# Altium footprint library bitbots.PcbLib: 27 footprints (part 1 of 2)
Each footprint in its own frame and in the unit in brackets; x right, y up, seen from the top. Pads: shape width x height; smd on the part's side, far side on the other; paste and mask are expansions set on the pad; w line width, h text height; cw(c..) or ccw(c..) is an arc to the next point about the centre after c.
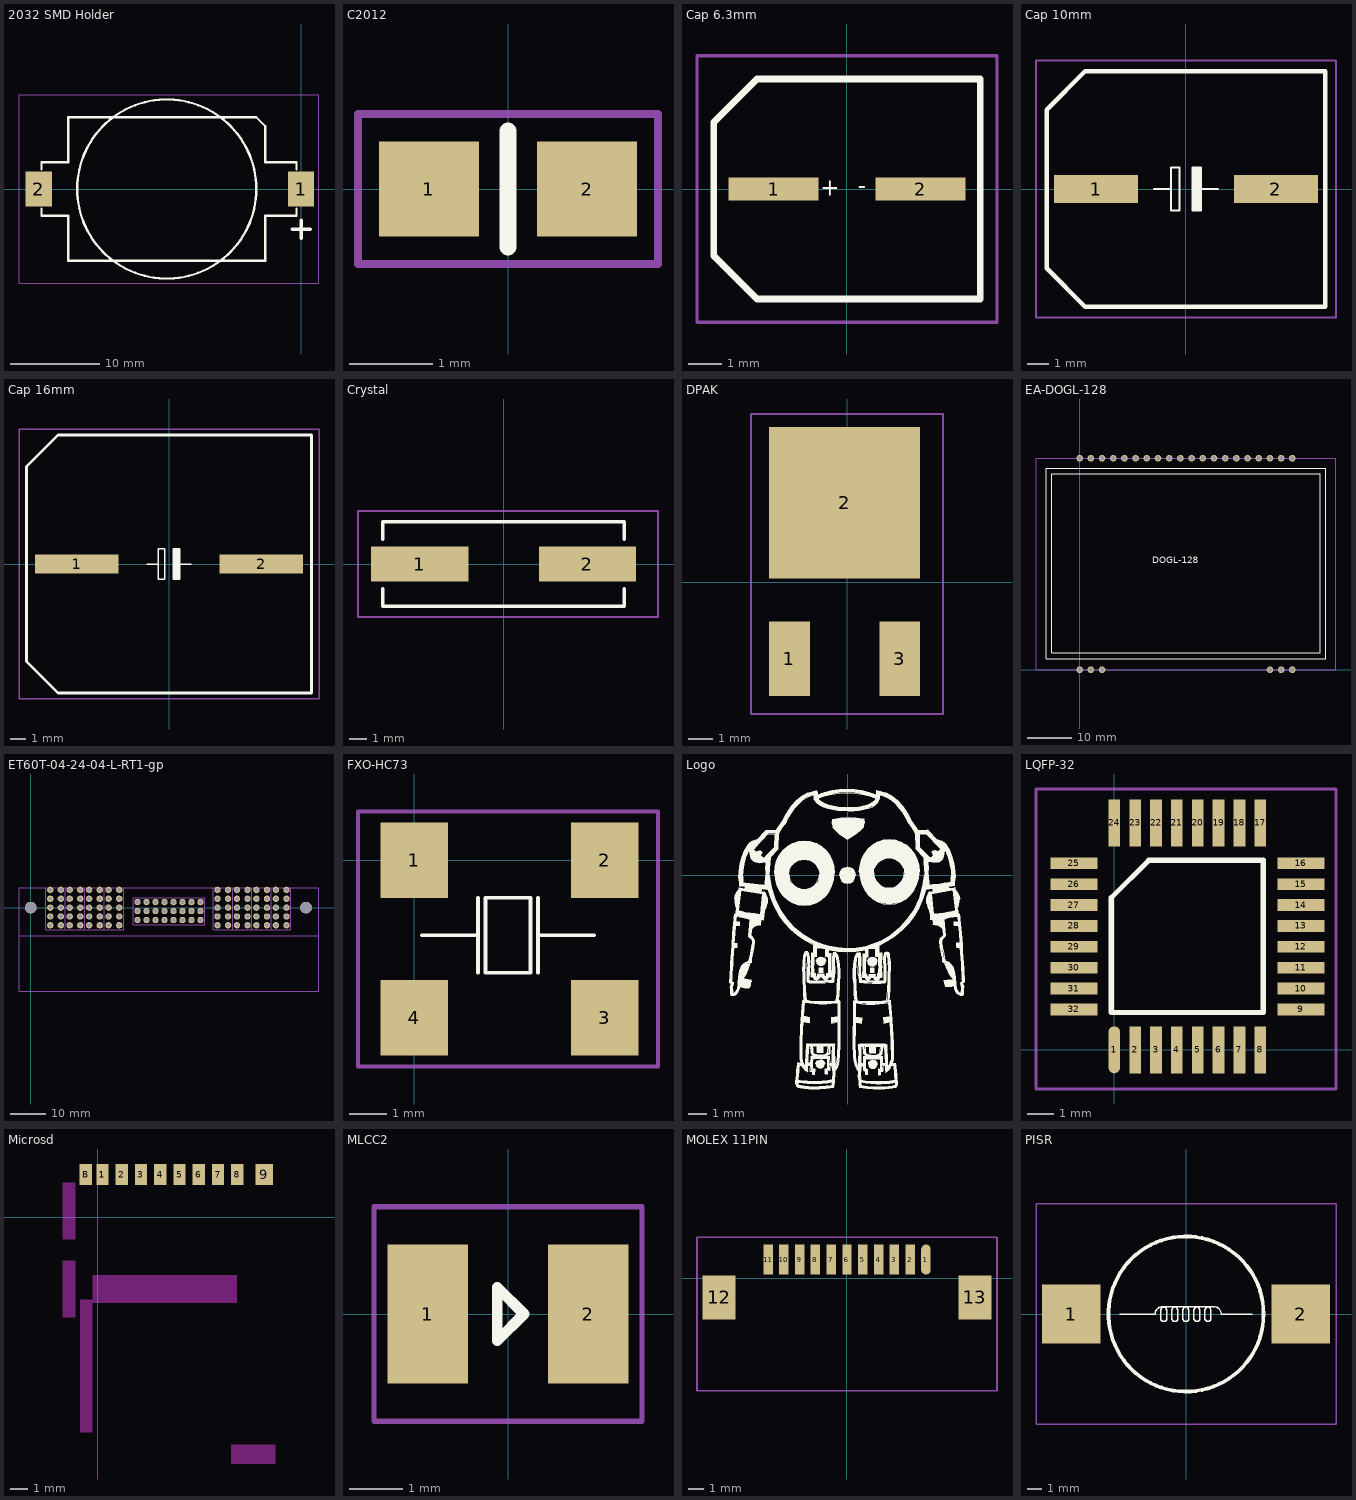
[diagram p0: the footprints below, top view; thin cyan lines are the x and y axes]

## 2032 SMD Holder [mil]
height 68.9
pads (2):
  rect 115x155 smd: 1(0,0) 2(-1153.54,0)
Top Overlay:
  circle w10: c-590.55,0 r393.7
  lines w10: -1141.73,-86.61 -1141.73,-118.11 -1023.62,-118.11 -1023.62,-314.96 -157.48,-314.96 -157.48,-118.11 -19.68,-118.11 -19.68,-86.61 ; -1141.73,86.61 -1141.73,118.11 -1023.62,118.11 -1023.62,314.96 -196.85,314.96 -157.48,275.59 -157.48,118.11 -19.68,118.11 -19.68,86.61
  lines w15.75: -39.37,-177.17 39.37,-177.17 ; 0,-216.54 0,-137.8
Mechanical 15:
  lines w3.94: -1240.16,-413.39 78.74,-413.39 78.74,413.39 -1240.16,413.39 -1240.16,-413.39
3D body: height 209.14, standoff 0.48, extent -1208.66,-389.77 51.18,397.64

## C2012 [mm]
pads (2):
  rect 1.2x1.14 smd: 1(-0.95,0) 2(0.95,0)
Top Overlay:
  lines w0.2: 0,-0.7 0,0.7
Mechanical 15:
  lines w0.1: -1.8,-0.9 1.8,-0.9 1.8,0.9 -1.8,0.9 -1.8,-0.9
3D body: height 0.78, standoff 0, extent -1,-0.625 1,0.625

## Cap 6.3mm [mm]
pads (2):
  rect 2.7x0.7 smd: 1(-2.2,0) 2(2.2,0)
Top Overlay:
  lines w0.2: -4,-2 -4,2 -2.7,3.3 4,3.3 4,-3.3 -2.7,-3.3 -4,-2
  text "-" at 0.575,0.25 h0.5
  text "+" at -0.225,0.25 h0.5
Mechanical 15:
  lines w0.1: -4.5,-4 -4.5,4 4.5,4 4.5,-4 -4.5,-4

## Cap 10mm [mm]
pads (2):
  rect 3.9x1.3 smd: 1(-4.2,0) 2(4.2,0)
Top Overlay:
  region: 0.7,1 0.3,1 0.3,-1 0.7,-1
  lines w0.1: -1.5,0 -0.7,0 ; 0.7,0 1.5,0 ; -0.7,-1 -0.3,-1 -0.3,1 -0.7,1 -0.7,-1 ; 0.3,-1 0.7,-1 0.7,1 0.3,1 0.3,-1
  lines w0.2: -6.5,-3.7 -6.5,3.7 -4.7,5.5 6.5,5.5 6.5,-5.5 -4.7,-5.5 -6.5,-3.7
Mechanical 15:
  lines w0.1: -7,-6 7,-6 7,6 -7,6 -7,-6
3D body: height 10.5, standoff 0, extent -5.901,-5.25 5.899,5.25

## Cap 16mm [mm]
pads (2):
  rect 5.6x1.3 smd: 1(-6.15,0) 2(6.15,0)
Top Overlay:
  region: 0.7,1 0.3,1 0.3,-1 0.7,-1
  lines w0.1: -1.5,0 -0.7,0 ; 0.7,0 1.5,0 ; -0.7,-1 -0.3,-1 -0.3,1 -0.7,1 -0.7,-1 ; 0.3,-1 0.7,-1 0.7,1 0.3,1 0.3,-1
  lines w0.2: -9.5,-6.5 -9.5,6.5 -7.4,8.6 9.5,8.6 9.5,-8.6 -7.4,-8.6 -9.5,-6.5
Mechanical 15:
  lines w0.1: -10,-9 10,-9 10,9 -10,9 -10,-9

## Crystal [mm]
height 4.6
pads (2):
  rect 5.5x2 smd: 1(-4.75,0) 2(4.75,0)
Top Overlay:
  lines w0.2: -6.85,-1.4 -6.85,-2.4 -5.675,-2.4 6.85,-2.4 6.85,-1.4 ; -6.85,1.4 -6.85,2.4 6.85,2.4 6.85,1.4
Mechanical 15:
  lines w0.1: -8.25,-3 -8.25,3 8.75,3 8.75,-3 -8.25,-3
3D body: height 4.5, standoff -0.01, extent -6.95,-2.5 6.95,2.5

## DPAK [mm]
pads (3):
  rect 1.7x3.1 smd: 1(-2.4,-3.2) 3(2.2,-3.2)
  rect 6.3x6.3 smd: 2(-0.1,3.3)
Mechanical 15:
  lines w0.1: -4,-5.5 4,-5.5 4,7 -4,7 -4,-5.5
3D body: height 2.44, standoff 0.03, extent -3.37,-4.211 3.17,5.728

## EA-DOGL-128 [mm]
pads (26):
  round 1.5 hole 1: 1(0,0) 2(2.54,0) 3(5.08,0) 18(43.18,0) 19(45.72,0) 20(48.26,0) 21(48.26,48.006) 22(45.72,48.006) 23(43.18,48.006) 24(40.64,48.006) 25(38.1,48.006) 26(35.56,48.006) 27(33.02,48.006) 28(30.48,48.006) 29(27.94,48.006) 30(25.4,48.006) 31(22.86,48.006) 32(20.32,48.006) 33(17.78,48.006) 34(15.24,48.006) 35(12.7,48.006) 36(10.16,48.006) 37(7.62,48.006) 38(5.08,48.006) 39(2.54,48.006) 40(0,48.006)
Top Overlay:
  lines w0.1: -6.096,45.72 -7.62,45.72 ; -7.62,45.72 55.88,45.72 55.88,2.54 -7.62,2.54 -7.62,45.72 ; -6.35,3.81 54.61,3.81 54.61,44.45 -6.35,44.45 -6.35,3.81
  text "DOGL-128" at 16.51,24.13 h1.52
Mechanical 15:
  lines w0.1: -9.906,0 58.166,0 58.166,48.006 -9.906,48.006 -9.906,0
3D body: height 7.5, standoff -2, extent -9.774,-0.076 58.026,48.224

## ET60T-04-24-04-L-RT1-gp [mm]
pads (106):
  round 3.3 hole 3.3 unplated: DH0(0,0) DH1(77.76,0)
  round 1.8 hole 1.1: P01(5.5,-5) P01(5.5,-2.5) P01(5.5,0) P01(5.5,2.5) P01(5.5,5) P01(8.5,-5) P01(8.5,-2.5) P01(8.5,0) P01(8.5,2.5) P01(8.5,5) P02(11,-5) P02(11,-2.5) P02(11,0) P02(11,2.5) P02(11,5) P02(14,-5) P02(14,-2.5) P02(14,0) P02(14,2.5) P02(14,5) P03(16.5,-5) P03(16.5,-2.5) P03(16.5,0) P03(16.5,2.5) P03(16.5,5) P03(19.5,-5) P03(19.5,-2.5) P03(19.5,0) P03(19.5,2.5) P03(19.5,5) P04(22,-5) P04(22,-2.5) P04(22,0) P04(22,2.5) P04(22,5) P04(25,-5) P04(25,-2.5) P04(25,0) P04(25,2.5) P04(25,5) P05(52.76,-5) P05(52.76,-2.5) P05(52.76,0) P05(52.76,2.5) P05(52.76,5) P05(55.76,-5) P05(55.76,-2.5) P05(55.76,0) P05(55.76,2.5) P05(55.76,5) P06(58.26,-5) P06(58.26,-2.5) P06(58.26,0) P06(58.26,2.5) P06(58.26,5) P06(61.26,-5) P06(61.26,-2.5) P06(61.26,0) P06(61.26,2.5) P06(61.26,5) P07(63.76,-5) P07(63.76,-2.5) P07(63.76,0) P07(63.76,2.5) P07(63.76,5) P07(66.76,-5) P07(66.76,-2.5) P07(66.76,0) P07(66.76,2.5) P07(66.76,5) P08(69.26,-5) P08(69.26,-2.5) P08(69.26,0) P08(69.26,2.5) P08(69.26,5) P08(72.26,-5) P08(72.26,-2.5) P08(72.26,0) P08(72.26,2.5) P08(72.26,5) S01(30.17,-3.5) S02(32.71,-3.5) S03(35.25,-3.5) S04(37.79,-3.5) S05(40.33,-3.52) S06(42.87,-3.52) S07(45.41,-3.52) S08(47.95,-3.52) S09(30.17,-0.96) S10(32.71,-0.96) S11(35.25,-0.96) S12(37.79,-0.96) S13(40.33,-0.98) S14(42.87,-0.98) S15(45.41,-0.98) S16(47.95,-0.98) S17(30.17,1.58) S18(32.71,1.58) S19(35.25,1.58) S20(37.79,1.56) S21(40.33,1.56) S22(42.87,1.56) S23(45.41,1.56) S24(47.95,1.56)
Mechanical 13:
  lines w0.2: -3.32,5.6 -3.32,-7.9 ; -3.31,5.6 81.44,5.6 81.44,-7.9 ; 4.25,5.6 4.25,-6.2 9.75,-6.2 ; 9.75,5.6 9.75,-6.2 ; 15.25,5.6 15.25,-6.2 ; 20.75,5.6 20.75,-6.2 ; 26.25,5.6 26.25,-6.2 20.75,-6.2 ; 51.51,5.6 51.51,-6.2 57.01,-6.2 ; 57.01,5.6 57.01,-6.2 ; 62.51,5.6 62.51,-6.2 ; 68.01,5.6 68.01,-6.2 ; 73.51,5.6 73.51,-6.2 68.01,-6.2 ; -3.32,-7.9 -3.32,-23.65 81.45,-23.65 81.45,-7.91 ccw(c81.44,-7.91) 81.44,-7.9 ; -3.32,-7.9 0,-7.9 81.44,-7.9 ; 9.75,-6.2 15.25,-6.2 ; 15.25,-6.2 20.75,-6.2 ; 57.01,-6.2 62.51,-6.2 ; 62.51,-6.2 68.01,-6.2 ; 28.9,-4.79 49.22,-4.79 49.22,2.85 28.9,2.85 28.9,-4.79
3D body: height 10, standoff -4.46, extent -3.31,-23.65 81.45,5.6

## FXO-HC73 [mm]
pads (4):
  rect 1.8x2 smd: 1(0,0) 2(5.08,0) 3(5.08,-4.2) 4(0,-4.2)
Top Overlay:
  lines w0.1: 0.2,-2 1.7,-2 ; 1.7,-3 1.7,-1 ; 3.3,-3 3.3,-1 ; 3.3,-2 4.8,-2 ; 4.8,-2 4.8,-2 ; 1.9,-3 1.9,-1 3.1,-1 3.1,-3 1.9,-3
Mechanical 15:
  lines w0.1: -1.5,-5.5 -1.5,1.3 6.5,1.3 6.5,-5.5 -1.5,-5.5
3D body: height 1.41, standoff 0, extent -1.3,-4.71 6.2,0.51

## Logo [mm] "Logo of Hamburg Bit-Bots"
Top Overlay:
  drawing of 1803 lines, arcs and shapes, not listed

## LQFP-32 [mm]
height 1.6
pads (32):
  oval 0.45x1.8 smd: 1(0,0)
  rect 0.45x1.8 smd: 2(0.8,0) 3(1.6,0) 4(2.4,0) 5(3.2,0) 6(4,0) 7(4.8,0) 8(5.6,0) 17(5.6,8.7) 18(4.8,8.7) 19(4,8.7) 20(3.2,8.7) 21(2.4,8.7) 22(1.6,8.7) 23(0.8,8.7) 24(0,8.7)
  rect 1.8x0.45 smd: 9(7.15,1.55) 10(7.15,2.35) 11(7.15,3.15) 12(7.15,3.95) 13(7.15,4.75) 14(7.15,5.55) 15(7.15,6.35) 16(7.15,7.15) 25(-1.55,7.15) 26(-1.55,6.35) 27(-1.55,5.55) 28(-1.55,4.75) 29(-1.55,3.95) 30(-1.55,3.15) 31(-1.55,2.35) 32(-1.55,1.55)
Top Overlay:
  lines w0.2: -0.115,1.435 -0.115,5.83 1.32,7.265 5.715,7.265 5.715,1.435 -0.115,1.435
Mechanical 15:
  lines w0.1: -3,-1.5 8.5,-1.5 8.5,10 -3,10 -3,-1.5
3D body: height 1.63, standoff -0.09, extent -1.7,-0.15 7.3,8.85

## Microsd [mm]
pads (11):
  rect 0.7x1.2 smd: 1(0.275,2.45) 1(0.275,2.45) 2(1.375,2.45) 3(2.475,2.45) 4(3.575,2.45) 5(4.675,2.45) 6(5.775,2.45) 7(6.875,2.45) 8(7.975,2.45) B(-0.675,2.45)
  rect 1x1.2 smd: 9(9.525,2.45)
Keep-Out Layer:
  rectangle: -0.3,-4.875 7.95,-3.275
  rectangle: -1,-12.275 -0.3,-4.675
  rectangle: -2,-1.25 -1.25,2
  rectangle: -2,-5.7 -1.25,-2.45
  rectangle: 7.6,-14.075 10.15,-12.975
3D body: height 1.61, standoff 0.01, extent -1.025,-16.9 10.975,-5.3

## MLCC2 [mm]
pads (2):
  rect 1.5x2.6 smd: 1(-1.5,0) 2(1.5,0)
Top Overlay:
  lines w0.2: -0.2,-0.5 0.3,0 -0.2,0.5 -0.2,-0.5
Mechanical 15:
  lines w0.1: -2.5,-2 2.5,-2 2.5,2 -2.5,2 -2.5,-2
3D body: height 1.7, standoff 0.05, extent -1.75,-1.403 1.75,1.397

## MOLEX 11PIN [mm] "1.0mm FPC CONN ZIF R/A 11PIN"
pads (13):
  oval 0.6x1.9 smd: 1(5,1.2)
  rect 0.6x1.9 smd: 2(4,1.2) 3(3,1.2) 4(2,1.2) 5(1,1.2) 6(0,1.2) 7(-1,1.2) 8(-2,1.2) 9(-3,1.2) 10(-4,1.2) 11(-5,1.2)
  rect 2.1x2.8 smd: 12(-8.1,-1.2) 13(8.1,-1.2)
Mechanical 15:
  lines w0.1: -9.5,-7.1 9.5,-7.1 9.5,2.6 -9.5,2.6 -9.5,-7.1
3D body: height 2.65, standoff -0.05, extent -8.65,-6.8 8.65,2.1

## PISR [mm]
pads (2):
  rect 4x4 smd: 1(-7.8,0) 2(7.8,0)
Top Overlay:
  circle w0.254: c0,0 r5.275
  lines w0.1: -4.5,0 -2.1,0 cw(c-1.6,0) -1.6,0.5 ; -0.552,0.198 -0.552,-0.288 cw(c-0.763,-0.288) -0.763,-0.5 cw(c-0.763,-0.288) -0.975,-0.288 -0.975,0.198 cw(c-0.673,0.198) -0.673,0.5 -0.1,0.5 cw(c-0.1,0.2) 0.2,0.2 ; -0.55,0.2 ccw(c-0.85,0.2) -0.85,0.5 -1.423,0.5 ccw(c-1.423,0.198) -1.725,0.198 -1.725,-0.288 ccw(c-1.513,-0.288) -1.513,-0.5 ccw(c-1.513,-0.288) -1.302,-0.288 -1.302,0.198 cw(c-1.3,0.198) -1.3,0.2 ccw(c-1.6,0.2) -1.6,0.5 ; 0.198,0.198 0.198,-0.288 cw(c-0.013,-0.288) -0.013,-0.5 cw(c-0.013,-0.288) -0.225,-0.288 -0.225,0.198 cw(c0.077,0.198) 0.077,0.5 0.65,0.5 cw(c0.65,0.2) 0.95,0.2 ; 0.948,0.198 0.948,-0.288 cw(c0.737,-0.288) 0.737,-0.5 cw(c0.737,-0.288) 0.525,-0.288 0.525,0.198 cw(c0.827,0.198) 0.827,0.5 1.4,0.5 cw(c1.4,0.2) 1.7,0.2 ; 1.698,0.198 1.698,-0.288 cw(c1.487,-0.288) 1.487,-0.5 cw(c1.487,-0.288) 1.275,-0.288 1.275,0.198 cw(c1.577,0.198) 1.577,0.5 1.9,0.5 cw(c1.9,0) 2.4,0 4.5,0 ; -1.6,0.5 -1.6,0.5
Mechanical 15:
  lines w0.1: -10.2,-7.5 -10.2,7.5 10.2,7.5 10.2,-7.5 -10.2,-7.5